# Altium schematic symbol library Connectors.SchLib: 45 symbols
Pins are listed as number, name and electrical type; pins without a type are passive.

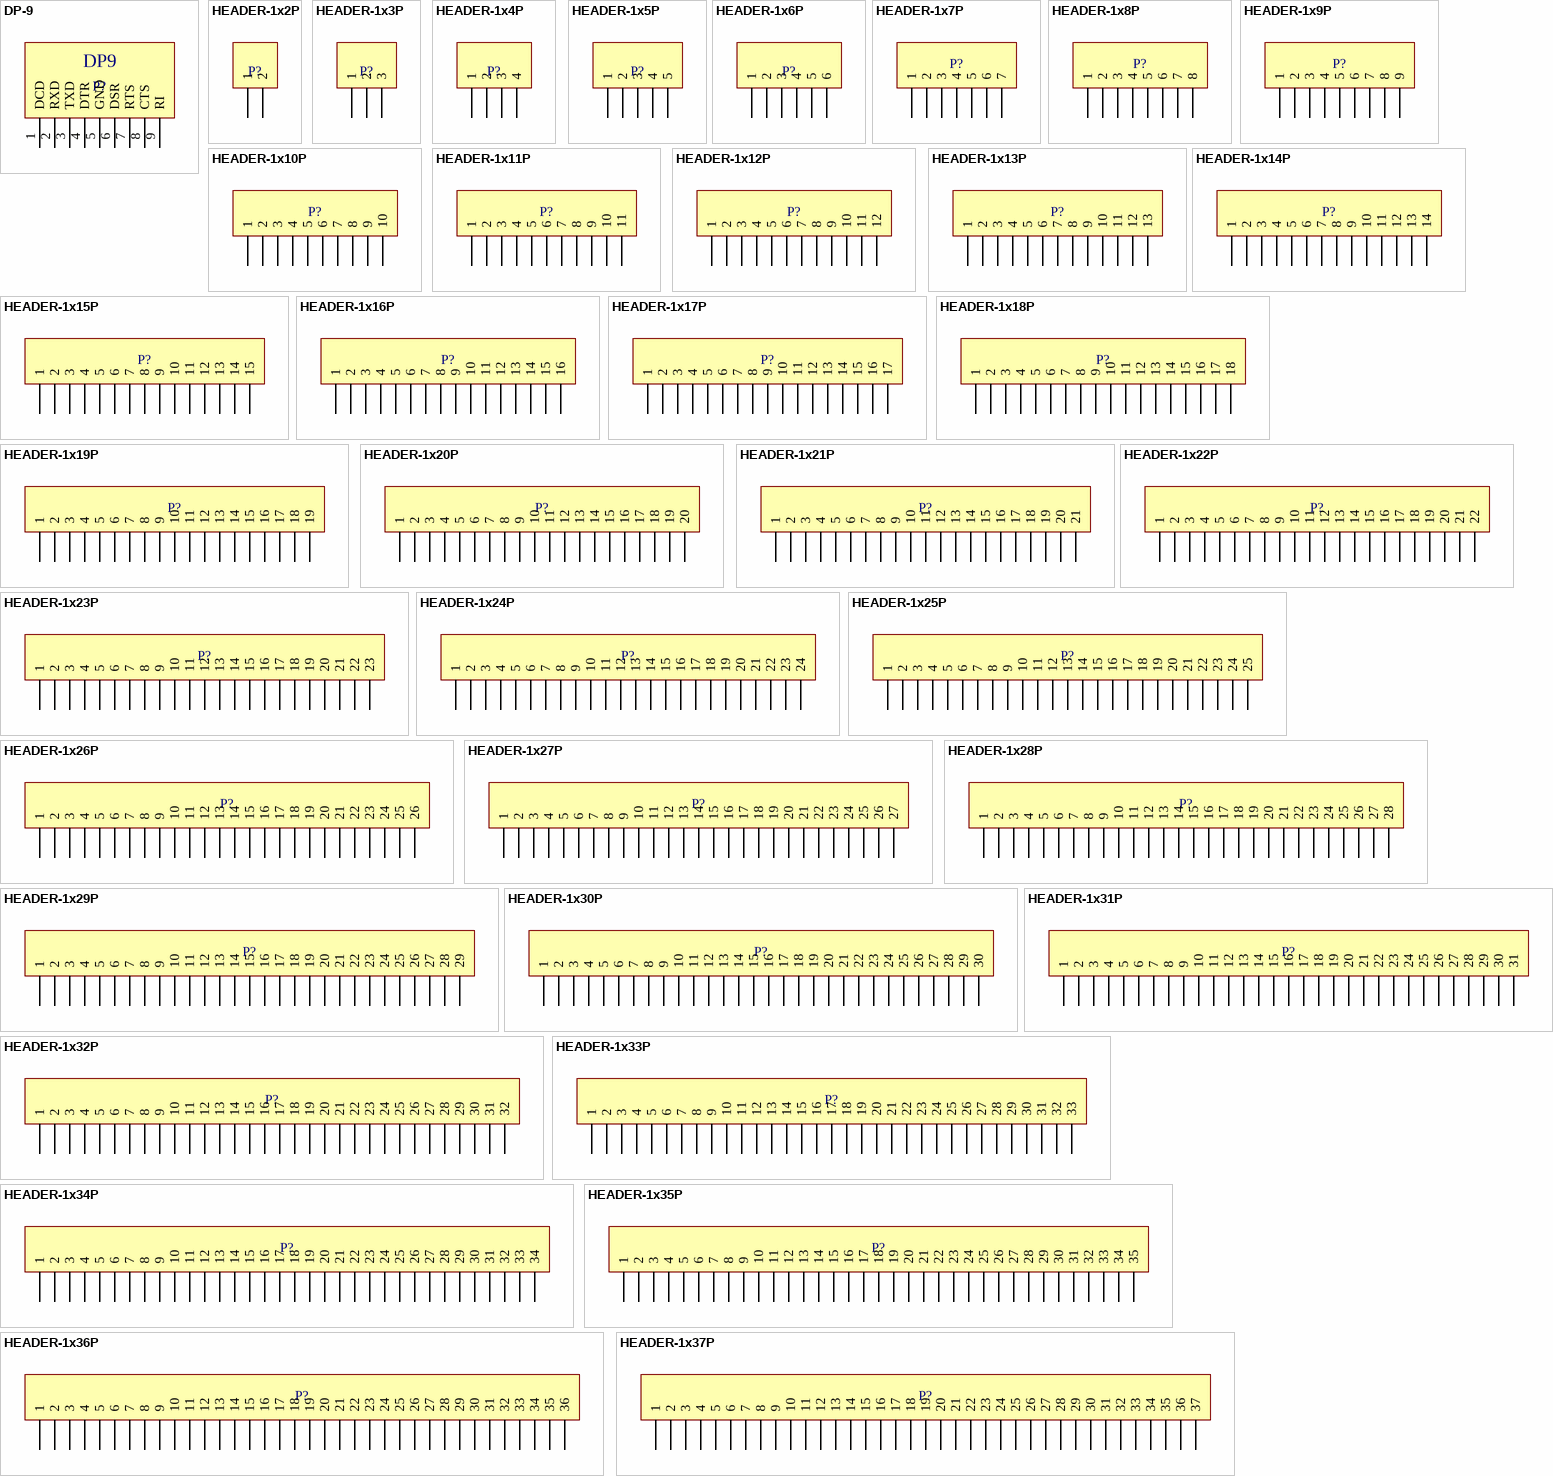
[diagram p0: symbols DP-9 to HEADER-1x37P]

## DP-9
designator P?, comment DP9  (value not drawn)
footprint DR-9T-FEMALE
footprint DR-9T-MALE
footprint DP-9T-MALE-H
pins: 1 DCD, 2 RXD, 3 TXD, 4 DTR, 5 GND, 6 DSR, 7 RTS, 8 CTS, 9 RI

## HEADER-1x2P
designator P?
footprint KF-128-5.08MM-2P
footprint KF-7.62-2P
footprint HD-2.54-MALE-2P
footprint VH-3.96-2P
footprint CH-3.96-2P
footprint HD-2.54-FEMALE-2P
footprint XH-2.54-2P-H-BLACK
footprint XH-2.54-2P-H-BLUE
footprint XH-2.54-2P-H-GREEN
footprint XH-2.54-2P-H-RED
footprint XH-2.54-2P-H-WHITE
footprint XH-2.54-2P-H-YELLOW
pins: 1, 2

## HEADER-1x3P
designator P?
footprint KF-7.62-3P
footprint HD-2.54-MALE-3P
footprint KF-128-5.08MM-3P
footprint VH-3.96-3P
footprint CH-3.96-3P
footprint HD-2.54-FEMALE-3P
footprint XH-2.54-3P-H-BLACK
footprint XH-2.54-3P-H-BLUE
footprint XH-2.54-3P-H-GREEN
footprint XH-2.54-3P-H-RED
footprint XH-2.54-3P-H-WHITE
footprint XH-2.54-3P-H-YELLOW
pins: 1, 2, 3

## HEADER-1x4P
designator P?
footprint KF-7.62-4P
footprint HD-2.54-MALE-4P
footprint KF-128-5.08MM-4P
footprint VH-3.96-4P
footprint CH-3.96-4P
footprint HD-2.54-FEMALE-4P
footprint XH-2.54-4P-H-BLACK
footprint XH-2.54-4P-H-BLUE
footprint XH-2.54-4P-H-GREEN
footprint XH-2.54-4P-H-RED
footprint XH-2.54-4P-H-WHITE
footprint XH-2.54-4P-H-YELLOW
pins: 1, 2, 3, 4

## HEADER-1x5P
designator P?
footprint KF-7.62-5P
footprint HD-2.54-MALE-5P
footprint KF-128-5.08MM-5P
footprint VH-3.96-5P
footprint CH-3.96-5P
footprint HD-2.54-FEMALE-5P
footprint XH-2.54-5P-H-BLACK
footprint XH-2.54-5P-H-BLUE
footprint XH-2.54-5P-H-GREEN
footprint XH-2.54-5P-H-RED
footprint XH-2.54-5P-H-WHITE
footprint XH-2.54-5P-H-YELLOW
pins: 1, 2, 3, 4, 5

## HEADER-1x6P
designator P?
footprint KF-128-5.08MM-6P
footprint KF-7.62-6P
footprint HD-2.54-MALE-6P
footprint VH-3.96-6P
footprint CH-3.96-6P
footprint HD-2.54-FEMALE-6P
footprint XH-2.54-6P-H-BLACK
footprint XH-2.54-6P-H-BLUE
footprint XH-2.54-6P-H-GREEN
footprint XH-2.54-6P-H-RED
footprint XH-2.54-6P-H-WHITE
footprint XH-2.54-6P-H-YELLOW
pins: 1, 2, 3, 4, 5, 6

## HEADER-1x7P
designator P?
footprint KF-7.62-7P
footprint HD-2.54-MALE-7P
footprint KF-128-5.08MM-7P
footprint VH-3.96-7P
footprint CH-3.96-7P
footprint HD-2.54-FEMALE-7P
footprint XH-2.54-7P-H-BLACK
footprint XH-2.54-7P-H-BLUE
footprint XH-2.54-7P-H-GREEN
footprint XH-2.54-7P-H-RED
footprint XH-2.54-7P-H-WHITE
footprint XH-2.54-7P-H-YELLOW
pins: 1, 2, 3, 4, 5, 6, 7

## HEADER-1x8P
designator P?
footprint KF-7.62-8P (Footprint not found)
footprint HD-2.54-MALE-8P
footprint KF-128-5.08MM-8P
footprint VH-3.96-8P
footprint CH-3.96-8P
footprint HD-2.54-FEMALE-8P
footprint XH-2.54-8P-H-BLACK
footprint XH-2.54-8P-H-BLUE
footprint XH-2.54-8P-H-GREEN
footprint XH-2.54-8P-H-RED
footprint XH-2.54-8P-H-WHITE
footprint XH-2.54-8P-H-YELLOW
pins: 1, 2, 3, 4, 5, 6, 7, 8

## HEADER-1x9P
designator P?
footprint HD-2.54-MALE-9P
footprint KF-7.62-9P
footprint KF-128-5.08MM-9P
footprint VH-3.96-9P
footprint CH-3.96-9P
footprint HD-2.54-FEMALE-9P
footprint XH-2.54-9P-H-BLACK
footprint XH-2.54-9P-H-BLUE
footprint XH-2.54-9P-H-GREEN
footprint XH-2.54-9P-H-RED
footprint XH-2.54-9P-H-WHITE
footprint XH-2.54-9P-H-YELLOW
pins: 1, 2, 3, 4, 5, 6, 7, 8, 9

## HEADER-1x10P
designator P?
footprint HD-2.54-MALE-10P
footprint KF-7.62-10P
footprint KF-128-5.08MM-10P
footprint VH-3.96-10P
footprint CH-3.96-10P
footprint HD-2.54-FEMALE-10P
footprint XH-2.54-10P-H-BLACK
footprint XH-2.54-10P-H-BLUE
footprint XH-2.54-10P-H-GREEN
footprint XH-2.54-10P-H-RED
footprint XH-2.54-10P-H-WHITE
footprint XH-2.54-10P-H-YELLOW
pins: 1, 2, 3, 4, 5, 6, 7, 8, 9, 10

## HEADER-1x11P
designator P?
footprint HD-2.54-MALE-11P
footprint VH-3.96-11P
footprint CH-3.96-11P
footprint XH-2.54-11P-H-BLACK
footprint XH-2.54-11P-H-BLUE
footprint XH-2.54-11P-H-GREEN
footprint XH-2.54-11P-H-RED
footprint XH-2.54-11P-H-WHITE
footprint XH-2.54-11P-H-YELLOW
pins: 1, 2, 3, 4, 5, 6, 7, 8, 9, 10, 11

## HEADER-1x12P
designator P?
footprint HD-2.54-MALE-12P
footprint VH-3.96-12P
footprint CH-3.96-12P
footprint XH-2.54-12P-H-BLACK
footprint XH-2.54-12P-H-BLUE
footprint XH-2.54-12P-H-GREEN
footprint XH-2.54-12P-H-RED
footprint XH-2.54-12P-H-YELLOW
footprint XH-2.54-12P-H-WHITE
pins: 1, 2, 3, 4, 5, 6, 7, 8, 9, 10, 11, 12

## HEADER-1x13P
designator P?
footprint HD-2.54-MALE-13P
pins: 1, 2, 3, 4, 5, 6, 7, 8, 9, 10, 11, 12, 13

## HEADER-1x14P
designator P?
footprint HD-2.54-MALE-14P
pins: 1, 2, 3, 4, 5, 6, 7, 8, 9, 10, 11, 12, 13, 14

## HEADER-1x15P
designator P?
footprint HD-2.54-MALE-15P
pins: 1, 2, 3, 4, 5, 6, 7, 8, 9, 10, 11, 12, 13, 14, 15

## HEADER-1x16P
designator P?
footprint HD-2.54-MALE-16P
pins: 1, 2, 3, 4, 5, 6, 7, 8, 9, 10, 11, 12, 13, 14, 15, 16

## HEADER-1x17P
designator P?
footprint HD-2.54-MALE-17P
pins: 1, 2, 3, 4, 5, 6, 7, 8, 9, 10, 11, 12, 13, 14, 15, 16, 17

## HEADER-1x18P
designator P?
footprint HD-2.54-MALE-18P
pins: 1, 2, 3, 4, 5, 6, 7, 8, 9, 10, 11, 12, 13, 14, 15, 16, 17, 18

## HEADER-1x19P
designator P?
footprint HD-2.54-MALE-19P
pins: 1, 2, 3, 4, 5, 6, 7, 8, 9, 10, 11, 12, 13, 14, 15, 16, 17, 18, 19

## HEADER-1x20P
designator P?
footprint HD-2.54-MALE-20P
pins: 1, 2, 3, 4, 5, 6, 7, 8, 9, 10, 11, 12, 13, 14, 15, 16, 17, 18, 19, 20

## HEADER-1x21P
designator P?
footprint HD-2.54-MALE-21P
pins: 1, 2, 3, 4, 5, 6, 7, 8, 9, 10, 11, 12, 13, 14, 15, 16, 17, 18, 19, 20, 21

## HEADER-1x22P
designator P?
footprint HD-2.54-MALE-22P
pins: 1, 2, 3, 4, 5, 6, 7, 8, 9, 10, 11, 12, 13, 14, 15, 16, 17, 18, 19, 20, 21, 22

## HEADER-1x23P
designator P?
footprint HD-2.54-MALE-23P
pins: 1, 2, 3, 4, 5, 6, 7, 8, 9, 10, 11, 12, 13, 14, 15, 16, 17, 18, 19, 20, 21, 22, 23

## HEADER-1x24P
designator P?
footprint HD-2.54-MALE-24P
pins: 1, 2, 3, 4, 5, 6, 7, 8, 9, 10, 11, 12, 13, 14, 15, 16, 17, 18, 19, 20, 21, 22, 23, 24

## HEADER-1x25P
designator P?
footprint HD-2.54-MALE-25P
pins: 1, 2, 3, 4, 5, 6, 7, 8, 9, 10, 11, 12, 13, 14, 15, 16, 17, 18, 19, 20, 21, 22, 23, 24, 25

## HEADER-1x26P
designator P?
footprint HD-2.54-MALE-26P
pins: 1, 2, 3, 4, 5, 6, 7, 8, 9, 10, 11, 12, 13, 14, 15, 16, 17, 18, 19, 20, 21, 22, 23, 24, 25, 26

## HEADER-1x27P
designator P?
footprint HD-2.54-MALE-27P
pins: 1, 2, 3, 4, 5, 6, 7, 8, 9, 10, 11, 12, 13, 14, 15, 16, 17, 18, 19, 20, 21, 22, 23, 24, 25, 26, 27

## HEADER-1x28P
designator P?
footprint HD-2.54-MALE-28P
pins: 1, 2, 3, 4, 5, 6, 7, 8, 9, 10, 11, 12, 13, 14, 15, 16, 17, 18, 19, 20, 21, 22, 23, 24, 25, 26, 27, 28

## HEADER-1x29P
designator P?
footprint HD-2.54-MALE-29P
pins: 1, 2, 3, 4, 5, 6, 7, 8, 9, 10, 11, 12, 13, 14, 15, 16, 17, 18, 19, 20, 21, 22, 23, 24, 25, 26, 27, 28, 29

## HEADER-1x30P
designator P?
footprint HD-2.54-MALE-30P
pins: 1, 2, 3, 4, 5, 6, 7, 8, 9, 10, 11, 12, 13, 14, 15, 16, 17, 18, 19, 20, 21, 22, 23, 24, 25, 26, 27, 28, 29, 30

## HEADER-1x31P
designator P?
footprint HD-2.54-MALE-31P
pins: 1, 2, 3, 4, 5, 6, 7, 8, 9, 10, 11, 12, 13, 14, 15, 16, 17, 18, 19, 20, 21, 22, 23, 24, 25, 26, 27, 28, 29, 30, 31

## HEADER-1x32P
designator P?
footprint HD-2.54-MALE-32P
pins: 1, 2, 3, 4, 5, 6, 7, 8, 9, 10, 11, 12, 13, 14, 15, 16, 17, 18, 19, 20, 21, 22, 23, 24, 25, 26, 27, 28, 29, 30, 31, 32

## HEADER-1x33P
designator P?
footprint HD-2.54-MALE-33P
pins: 1, 2, 3, 4, 5, 6, 7, 8, 9, 10, 11, 12, 13, 14, 15, 16, 17, 18, 19, 20, 21, 22, 23, 24, 25, 26, 27, 28, 29, 30, 31, 32, 33

## HEADER-1x34P
designator P?
footprint HD-2.54-MALE-34P
pins: 1, 2, 3, 4, 5, 6, 7, 8, 9, 10, 11, 12, 13, 14, 15, 16, 17, 18, 19, 20, 21, 22, 23, 24, 25, 26, 27, 28, 29, 30, 31, 32, 33, 34

## HEADER-1x35P
designator P?
footprint HD-2.54-MALE-35P
pins: 1, 2, 3, 4, 5, 6, 7, 8, 9, 10, 11, 12, 13, 14, 15, 16, 17, 18, 19, 20, 21, 22, 23, 24, 25, 26, 27, 28, 29, 30, 31, 32, 33, 34, 35

## HEADER-1x36P
designator P?
footprint HD-2.54-MALE-36P
pins: 1, 2, 3, 4, 5, 6, 7, 8, 9, 10, 11, 12, 13, 14, 15, 16, 17, 18, 19, 20, 21, 22, 23, 24, 25, 26, 27, 28, 29, 30, 31, 32, 33, 34, 35, 36

## HEADER-1x37P
designator P?
footprint HD-2.54-MALE-37P
pins: 1, 2, 3, 4, 5, 6, 7, 8, 9, 10, 11, 12, 13, 14, 15, 16, 17, 18, 19, 20, 21, 22, 23, 24, 25, 26, 27, 28, 29, 30, 31, 32, 33, 34, 35, 36, 37

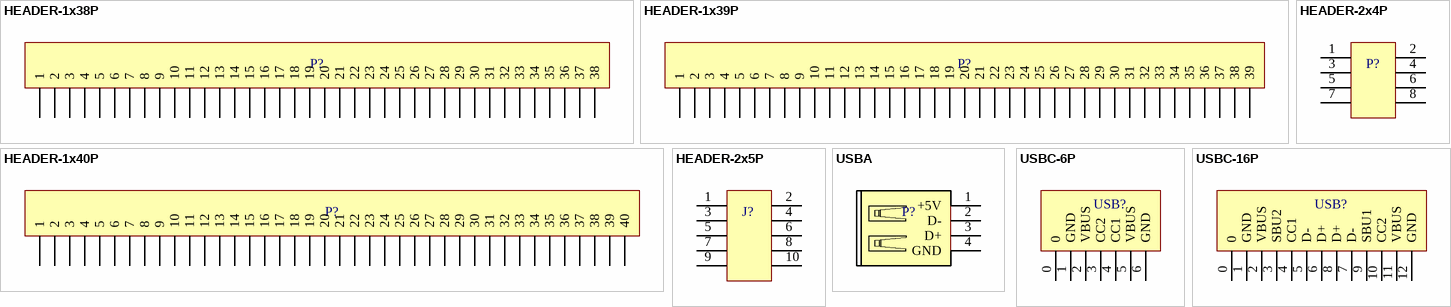
[diagram p1: symbols HEADER-1x38P to USBC-16P]

## HEADER-1x38P
designator P?
footprint HD-2.54-MALE-38P
pins: 1, 2, 3, 4, 5, 6, 7, 8, 9, 10, 11, 12, 13, 14, 15, 16, 17, 18, 19, 20, 21, 22, 23, 24, 25, 26, 27, 28, 29, 30, 31, 32, 33, 34, 35, 36, 37, 38

## HEADER-1x39P
designator P?
footprint HD-2.54-MALE-39P
pins: 1, 2, 3, 4, 5, 6, 7, 8, 9, 10, 11, 12, 13, 14, 15, 16, 17, 18, 19, 20, 21, 22, 23, 24, 25, 26, 27, 28, 29, 30, 31, 32, 33, 34, 35, 36, 37, 38, 39

## HEADER-1x40P
designator P?
footprint HD-2.54-MALE-40P
pins: 1, 2, 3, 4, 5, 6, 7, 8, 9, 10, 11, 12, 13, 14, 15, 16, 17, 18, 19, 20, 21, 22, 23, 24, 25, 26, 27, 28, 29, 30, 31, 32, 33, 34, 35, 36, 37, 38, 39, 40

## HEADER-2x4P
designator P?
footprint HDR-2.54-2x4P-FEMALE
pins: 1, 2, 3, 4, 5, 6, 7, 8

## HEADER-2x5P
designator J?
footprint IDE-10
footprint IDE-10-H
pins: 1, 2, 3, 4, 5, 6, 7, 8, 9, 10

## USBA
designator P?
footprint USBA-MALE
pins: 1 +5V, 2 D-, 3 D+, 4 GND

## USBC-6P
designator USB?
footprint USBC-6P-FEMALE
pins: 0, 1 GND, 2 VBUS, 3 CC2, 4 CC1, 5 VBUS, 6 GND

## USBC-16P
designator USB?
footprint USBC-16P-FEMALE
pins: 0, 1 GND, 2 VBUS, 3 SBU2, 4 CC1, 5 D-, 6 D+, 7 D-, 8 D+, 9 SBU1, 10 CC2, 11 VBUS, 12 GND